# EAGLE library part PAM8403 (library ct-bot)
Dual channel audio amplifier IC - PAM8403
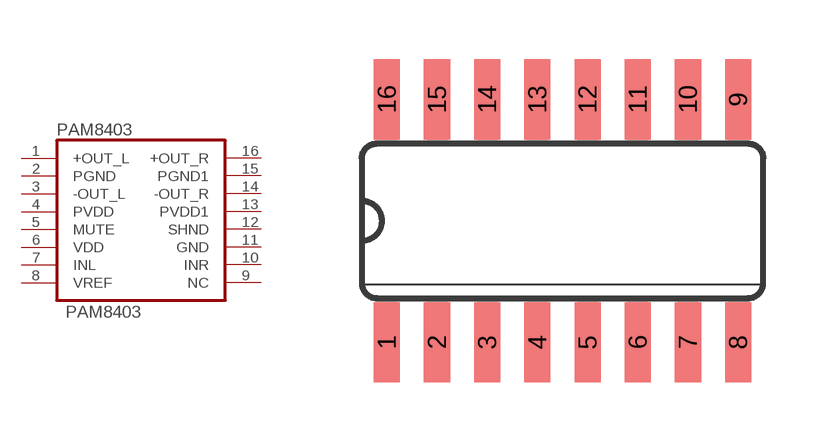
[diagram p11: symbol with the pads of SOP-16; footprint SOP-16]

Designator prefix PAM8403

## PAM8403  [SOP-16]
1  +OUT_L  out
2  PGND  pwr
3  -OUT_L  out
4  PVDD  pwr
5  MUTE  in
6  VDD  pwr
7  INL  in
8  VREF  pas
9  NC  nc
10  INR  in
11  GND  pwr
12  SHND  in
13  PVDD1  pwr
14  -OUT_R  out
15  PGND1  pwr
16  +OUT_R  out

## Footprint SOP-16 (pad centres in mm)
smd 0.66 x 2.032: 1 -4.445,-3.073; 2 -3.175,-3.073; 3 -1.905,-3.073; 4 -0.635,-3.073; 5 0.635,-3.073; 6 1.905,-3.073; 7 3.175,-3.073; 8 4.445,-3.073; 9 4.445,3.073; 10 3.175,3.073; 11 1.905,3.073; 12 0.635,3.073; 13 -0.635,3.073; 14 -1.905,3.073; 15 -3.175,3.073; 16 -4.445,3.073